# Altium footprint library L7805ACD2T-TR.PcbLib: 1 footprints
Each footprint in its own frame and in the unit in brackets; x right, y up, seen from the top. Pads: shape width x height; smd on the part's side, far side on the other; paste and mask are expansions set on the pad; w line width, h text height; cw(c..) or ccw(c..) is an arc to the next point about the centre after c.
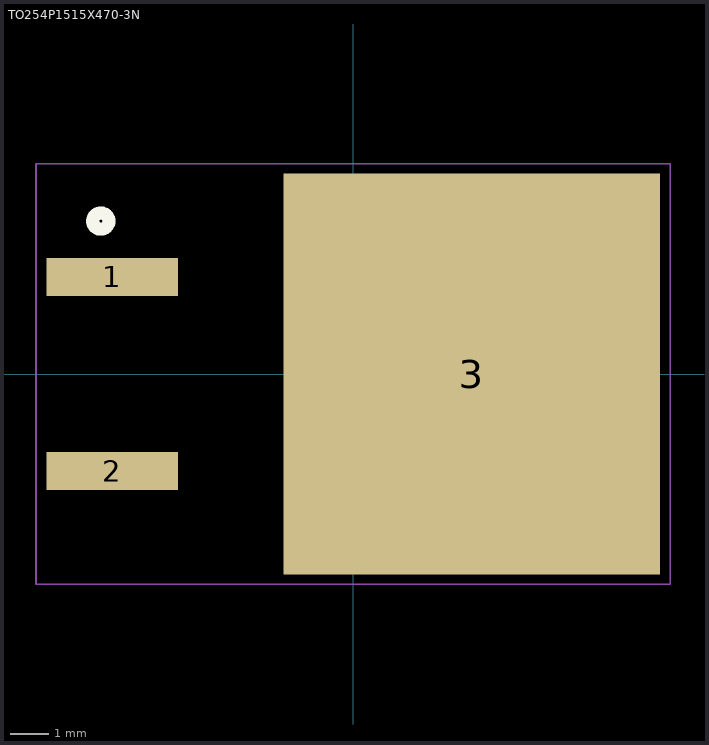
[diagram p0: the footprint, top view; thin cyan lines are the x and y axes]

## TO254P1515X470-3N [mm]
pads (3):
  rect 3.45x1 smd: 1(-6.3,2.54) 2(-6.3,-2.54)
  rect 9.85x10.5 smd paste-6: 3(3.1,0)
Top Overlay:
  circle w0.2: c-6.6,4 r0.141
  circle w0.2: c-6.6,4 r0.283
Mechanical 15:
  lines w0.05: -8.3,-5.5 -8.3,5.5 8.3,5.5 8.3,-5.5 -8.3,-5.5
3D body "step_temp.STEP": height 4.6, standoff -0.23, extent -7.712,-5.1 7.712,5.1